# Altium footprint library SOD-128.PcbLib: 1 footprints
Each footprint in its own frame and in the unit in brackets; x right, y up, seen from the top. Pads: shape width x height; smd on the part's side, far side on the other; paste and mask are expansions set on the pad; w line width, h text height; cw(c..) or ccw(c..) is an arc to the next point about the centre after c.
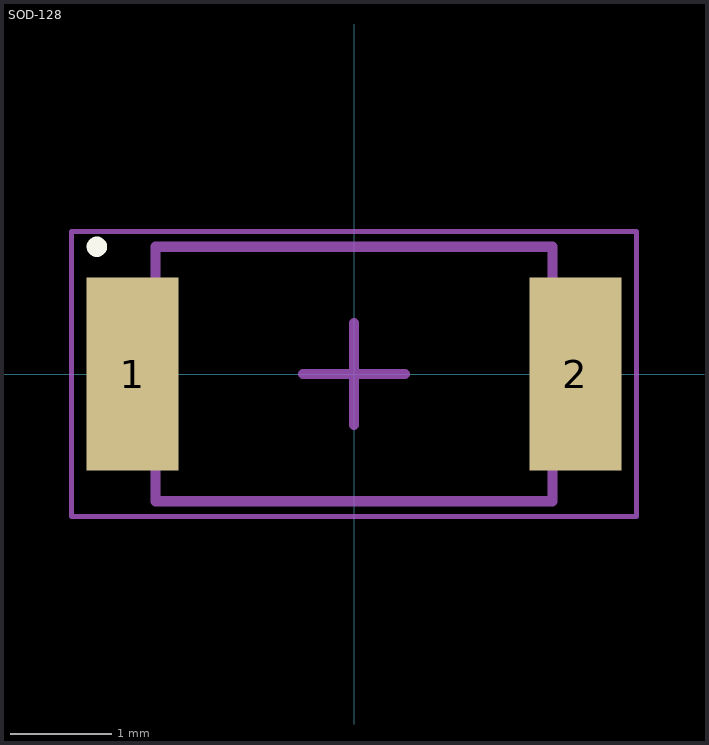
[diagram p0: the footprint, top view; thin cyan lines are the x and y axes]

## SOD-128 [mm] "SOD-128, 2-Leads, Body 2.40x4.70mm, IPC Medium Density"
height 0.85
pads (2):
  rect 0.9x1.9 smd: 1(-2.175,0) 2(2.175,0)
Top Overlay:
  circle w0.1: c-2.525,1.25 r0.05
Mechanical 13:
  lines w0.1: -1.95,-1.25 1.95,-1.25 1.95,1.25 -1.95,1.25 -1.95,-1.25
Mechanical 15:
  lines w0.05: -2.775,-1.4 2.775,-1.4 2.775,1.4 -2.775,1.4 -2.775,-1.4
  lines w0.1: -0.5,0 0.5,0 ; 0,-0.5 0,0.5
3D body "SOD-128.step": height 0.85, standoff 0, extent -2.35,-1.25 2.35,1.25